# EAGLE library part 1-1586043-4 (library 1-1586043-4)
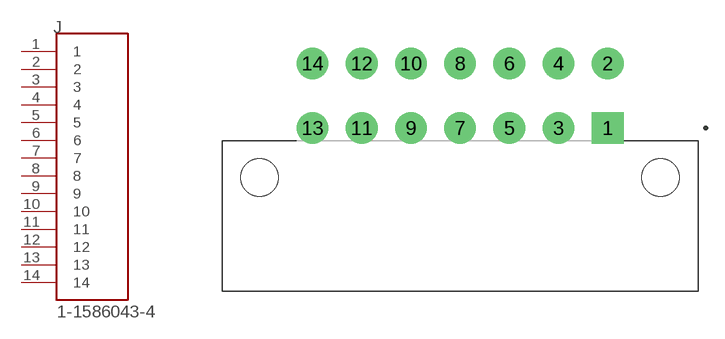
[diagram p0: symbol with the pads of TE_1-1586043-4; footprint TE_1-1586043-4]

Designator prefix J

## 1-1586043-4 (MANUFACTURER: TE; PARTREV: R; STANDARD: Manufacturer Recommendations)  [TE_1-1586043-4]
1  1  pas
2  2  pas
3  3  pas
4  4  pas
5  5  pas
6  6  pas
7  7  pas
8  8  pas
9  9  pas
10  10  pas
11  11  pas
12  12  pas
13  13  pas
14  14  pas

## Footprint TE_1-1586043-4 (pad centres in mm)
drill 1.8 pad 2.15 square: 1 0,0
drill 1.8 pad 2.15: 2 0,5.5; 3 -4.19,0; 4 -4.19,5.5; 5 -8.38,0; 6 -8.38,5.5; 7 -12.57,0; 8 -12.57,5.5; 9 -16.76,0; 10 -16.76,5.5; 11 -20.95,0; 12 -20.95,5.5; 13 -25.14,0; 14 -25.14,5.5
hole 3.2 at -29.64,-4.2
hole 3.2 at 4.5,-4.2